# EAGLE library part OLIMEX_CONNECTORS_MICRO_SD/MMC_CP_NEW (library A10-A20-OLINUXINO-MICRO-4GB_Rev_D)
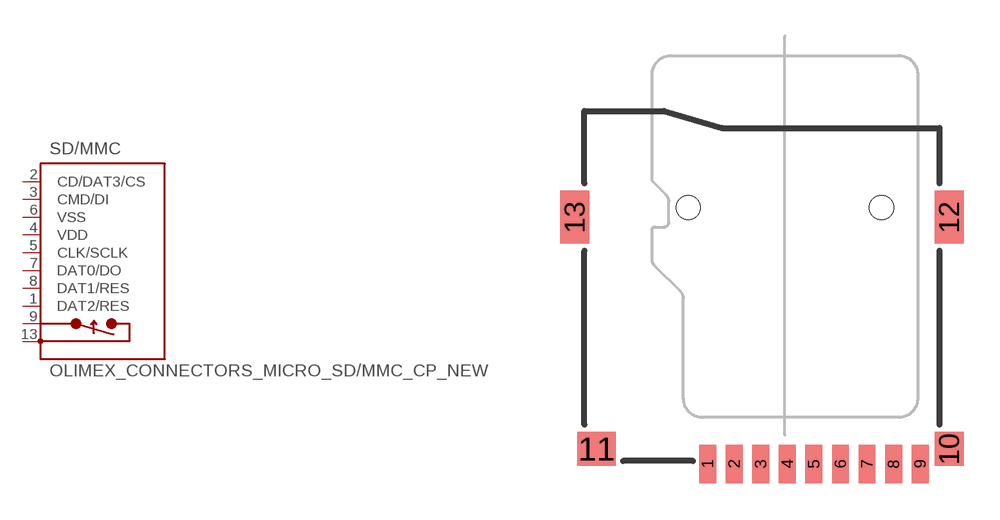
[diagram p2: symbol with the pads of OLIMEX_CONNECTORS_TFC-WPAPR-08; footprint OLIMEX_CONNECTORS_TFC-WPAPR-08]

Designator prefix SD/MMC

## OLIMEX_CONNECTORS_MICRO_SD/MMC_CP_NEWTFC-WPAPR-08  [OLIMEX_CONNECTORS_TFC-WPAPR-08]
1  DAT2/RES
2  CD/DAT3/CS  in
3  CMD/DI  in
4  VDD  pwr
5  CLK/SCLK  in
6  VSS  pwr
7  DAT0/DO  out
8  DAT1/RES
9  CP_E  in
10  PACK1  in
11  PACK2  in
12  PACK3  in
13  PACK4  in

## Footprint OLIMEX_CONNECTORS_TFC-WPAPR-08 (pad centres in mm)
smd 0.7 x 1.6: 1 -3.2,-0.125; 2 -2.1,-0.125; 3 -1,-0.125; 4 0.1,-0.125; 5 1.2,-0.125; 6 2.3,-0.125; 7 3.4,-0.125; 8 4.5,-0.125; 9 5.6,-0.125
smd 1.2 x 1.4: 10 6.8,0.5
smd 1.6 x 1.4: 11 -7.8,0.5
smd 1.2 x 2.2: 12 6.8,10.1; 13 -8.7,10.1
hole 1 at 4,10.5
hole 1 at -4,10.5